# Altium footprint library 超声波接近电路.PcbLib: 18 footprints (part 2 of 2)
Each footprint in its own frame and in the unit in brackets; x right, y up, seen from the top. Pads: shape width x height; smd on the part's side, far side on the other; paste and mask are expansions set on the pad; w line width, h text height; cw(c..) or ccw(c..) is an arc to the next point about the centre after c.
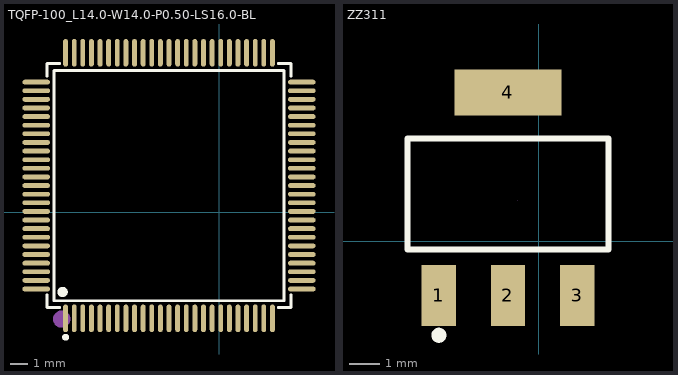
[diagram p1: the footprints below, top view; thin cyan lines are the x and y axes]

## TQFP-100_L14.0-W14.0-P0.50-LS16.0-BL [mm]
pads (100):
  oval 0.28x1.6 smd: 1(-8.915,-6.166) 2(-8.415,-6.166) 3(-7.915,-6.166) 4(-7.415,-6.166) 5(-6.915,-6.166) 6(-6.415,-6.166) 7(-5.915,-6.166) 8(-5.415,-6.166) 9(-4.915,-6.166) 10(-4.415,-6.166) 11(-3.915,-6.166) 12(-3.415,-6.166) 13(-2.915,-6.166) 14(-2.415,-6.166) 15(-1.915,-6.166) 16(-1.415,-6.166) 17(-0.915,-6.166) 18(-0.415,-6.166) 19(0.085,-6.166) 20(0.585,-6.166) 21(1.085,-6.166) 22(1.585,-6.166) 23(2.085,-6.166) 24(2.585,-6.166) 25(3.085,-6.166) 51(3.085,9.234) 52(2.585,9.234) 53(2.085,9.234) 54(1.585,9.234) 55(1.085,9.234) 56(0.585,9.234) 57(0.085,9.234) 58(-0.415,9.234) 59(-0.915,9.234) 60(-1.415,9.234) 61(-1.915,9.234) 62(-2.415,9.234) 63(-2.915,9.234) 64(-3.415,9.234) 65(-3.915,9.234) 66(-4.415,9.234) 67(-4.915,9.234) 68(-5.415,9.234) 69(-5.915,9.234) 70(-6.415,9.234) 71(-6.915,9.234) 72(-7.415,9.234) 73(-7.915,9.234) 74(-8.415,9.234) 75(-8.915,9.234)
  oval 1.6x0.28 smd: 26(4.785,-4.466) 27(4.785,-3.966) 28(4.785,-3.466) 29(4.785,-2.966) 30(4.785,-2.466) 31(4.785,-1.966) 32(4.785,-1.466) 33(4.785,-0.966) 34(4.785,-0.466) 35(4.785,0.034) 36(4.785,0.534) 37(4.785,1.034) 38(4.785,1.534) 39(4.785,2.034) 40(4.785,2.534) 41(4.785,3.034) 42(4.785,3.534) 43(4.785,4.034) 44(4.785,4.534) 45(4.785,5.034) 46(4.785,5.534) 47(4.785,6.034) 48(4.785,6.534) 49(4.785,7.034) 50(4.785,7.534) 76(-10.615,7.534) 77(-10.615,7.034) 78(-10.615,6.534) 79(-10.615,6.034) 80(-10.615,5.534) 81(-10.615,5.034) 82(-10.615,4.534) 83(-10.615,4.034) 84(-10.615,3.534) 85(-10.615,3.034) 86(-10.615,2.534) 87(-10.615,2.034) 88(-10.615,1.534) 89(-10.615,1.034) 90(-10.615,0.534) 91(-10.615,0.034) 92(-10.615,-0.466) 93(-10.615,-0.966) 94(-10.615,-1.466) 95(-10.615,-1.966) 96(-10.615,-2.466) 97(-10.615,-2.966) 98(-10.615,-3.466) 99(-10.615,-3.966) 100(-10.615,-4.466)
Top Overlay:
  circle w0.2: c-8.915,-7.266 r0.1
  circle w0.3: c-9.087,-4.637 r0.15
  lines w0.152: -9.991,-4.796 -9.991,-5.542 -9.246,-5.542 ; -9.991,7.865 -9.991,8.61 -9.246,8.61 ; 3.415,-5.542 4.161,-5.542 4.161,-4.796 ; 3.415,8.61 4.161,8.61 4.161,7.865 ; -9.587,-5.137 -9.587,8.206 3.756,8.206 3.756,-5.137 -9.587,-5.137
Mechanical 15:
  circle w0.5: c-9.138,-6.213 r0.25

## ZZ311 [mil]
pads (4):
  rect 45x80 smd: 1(-130.55,-70.74) 2(-40,-70.74) 3(50.55,-70.74)
  rect 140x60 smd: 4(-40,195)
Top Overlay:
  lines w7.87: -171.89,-10.7 -171.89,134.96 91.89,134.96 91.89,-10.7 -171.89,-10.7
  lines w9.84: -130.77,-127.83 cw(c-130.55,-122.91) -130.55,-127.83
Mechanical 15:
  lines w0.1: -27.51,53.57 -27.49,53.59